# Altium schematic symbol library Header 2X13.Schlib: 1 symbol
Pins are listed as number, name and electrical type; pins without a type are passive.

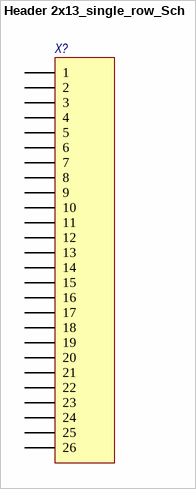
[diagram p0: symbol Header 2x13_single_row_Sch]

## Header 2x13_single_row_Sch
designator X?, comment Header 2X13  (value not drawn)
Header, 26-Pin, Dual row; Потребление, Вт: 0,0; Назначение: Header, 26-Pin, Dual row
footprint PLD-26 (2.54mm PIN HEADER R/A)
pins: 1, 2, 3, 4, 5, 6, 7, 8, 9, 10, 11, 12, 13, 14, 15, 16, 17, 18, 19, 20, 21, 22, 23, 24, 25, 26